# Altium footprint library PcbLib1.PcbLib: 98 footprints (part 5 of 7)
Each footprint in its own frame and in the unit in brackets; x right, y up, seen from the top. Pads: shape width x height; smd on the part's side, far side on the other; paste and mask are expansions set on the pad; w line width, h text height; cw(c..) or ccw(c..) is an arc to the next point about the centre after c.
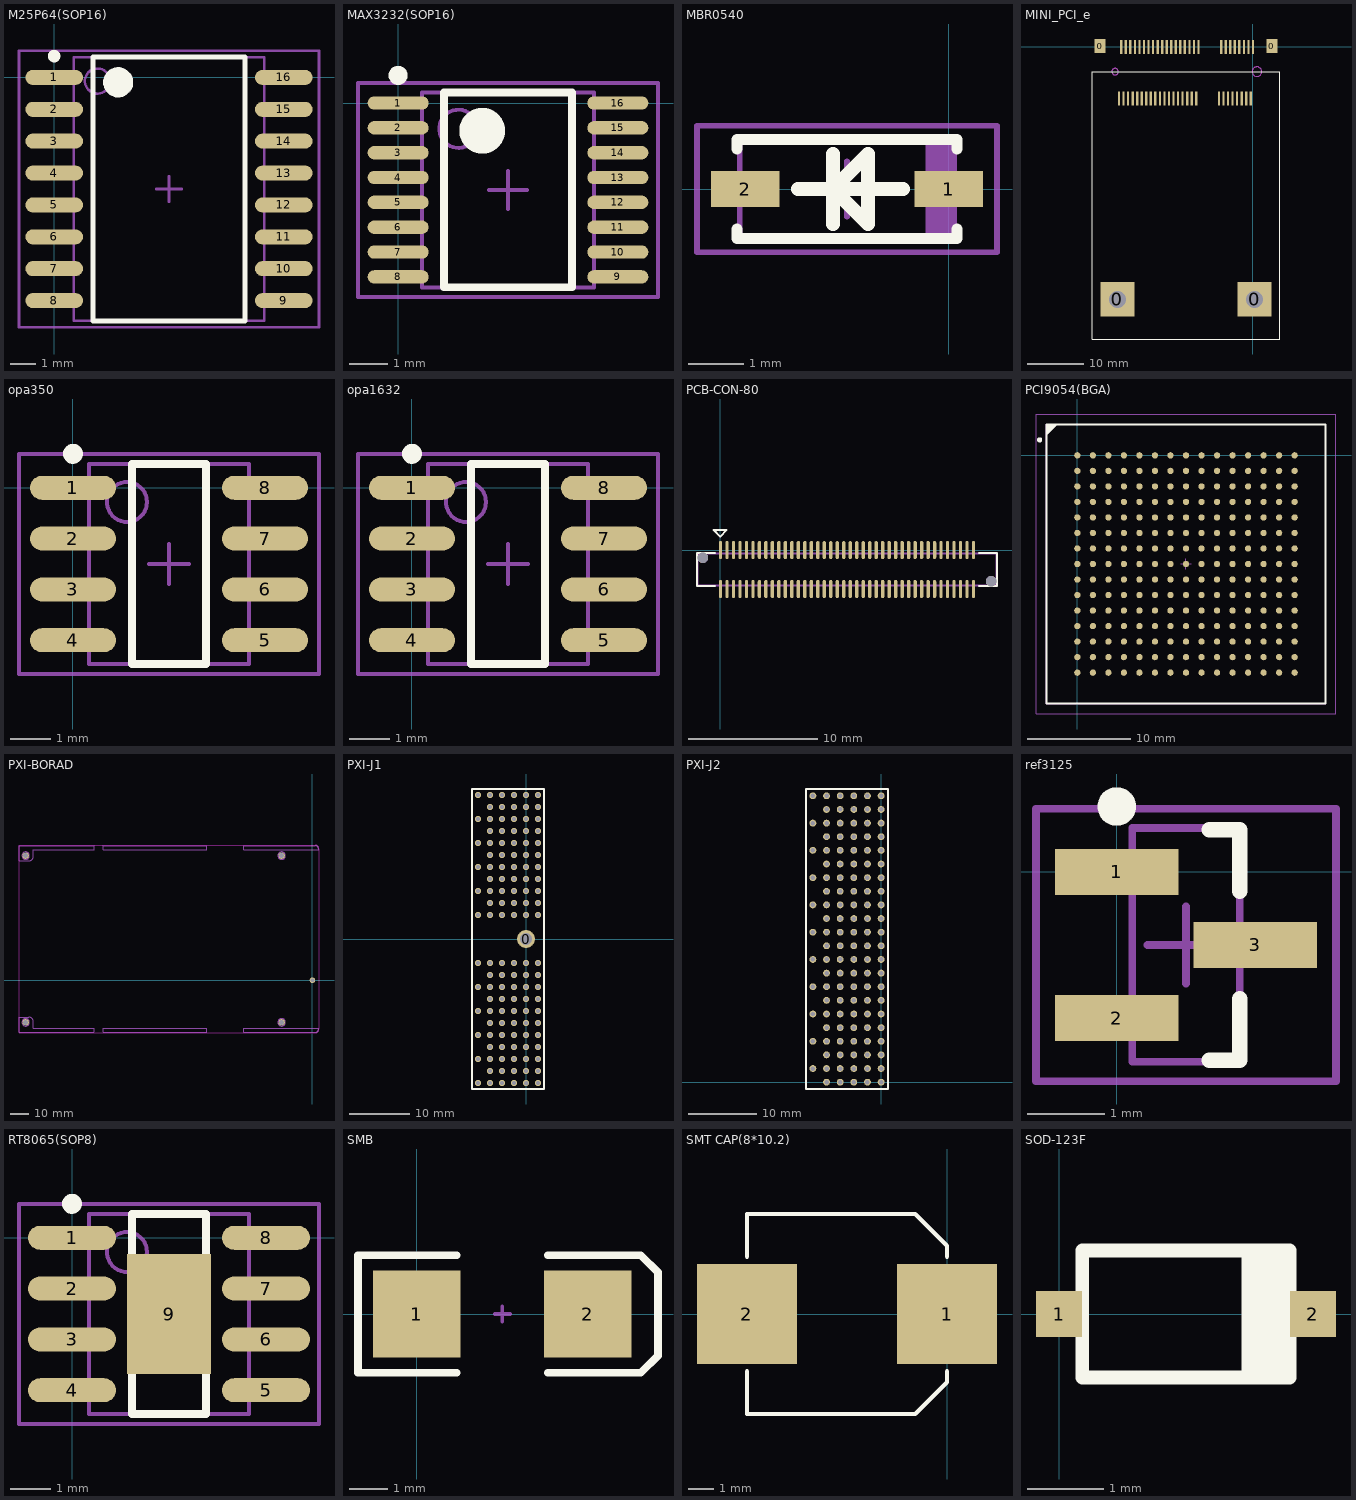
[diagram p4: the footprints below, top view; thin cyan lines are the x and y axes]

## M25P64(SOP16) [mm] "SOP, 16-Leads, Body 10.5x7.6mm (max), Pitch 1.27mm, IPC Medium Density"
height 2.65
pads (16):
  oval 2.3x0.6 smd: 1(0,0) 2(0,-1.27) 3(0,-2.54) 4(0,-3.81) 5(0,-5.08) 6(0,-6.35) 7(0,-7.62) 8(0,-8.89) 9(9.15,-8.89) 10(9.15,-7.62) 11(9.15,-6.35) 12(9.15,-5.08) 13(9.15,-3.81) 14(9.15,-2.54) 15(9.15,-1.27) 16(9.15,0)
Top Overlay:
  circle w0.25: c0,0.85 r0.125
  circle w0.6: c2.55,-0.195 r0.3
  lines w0.2: 1.55,-9.695 1.55,0.805 7.6,0.805 7.6,-9.695 1.55,-9.695
Mechanical 13:
  circle w0.1: c1.725,-0.145 r0.5
  lines w0.1: 0.775,-9.695 0.775,0.805 8.375,0.805 8.375,-9.695 0.775,-9.695
Mechanical 15:
  lines w0.1: 4.075,-4.445 5.075,-4.445 ; 4.575,-4.945 4.575,-3.945 ; -1.4,-9.945 -1.4,1.055 10.55,1.055 10.55,-9.945 -1.4,-9.945
3D body: height 2.65, standoff 0.1, extent 0.775,-9.695 8.375,0.805

## MAX3232(SOP16) [mm] "SOP, 16-Leads, Body 5.1x4.5mm (max), Pitch 0.65mm, IPC Medium Density"
height 2.65
pads (16):
  oval 1.6x0.35 smd: 1(0,0) 2(0,-0.65) 3(0,-1.3) 4(0,-1.95) 5(0,-2.6) 6(0,-3.25) 7(0,-3.9) 8(0,-4.55) 9(5.75,-4.55) 10(5.75,-3.9) 11(5.75,-3.25) 12(5.75,-2.6) 13(5.75,-1.95) 14(5.75,-1.3) 15(5.75,-0.65) 16(5.75,0)
Top Overlay:
  circle w0.6: c2.2,-0.725 r0.3
  circle w0.25: c0,0.725 r0.125
  lines w0.2: 1.2,-4.825 4.55,-4.825 4.55,0.275 1.2,0.275 1.2,-4.825
Mechanical 13:
  circle w0.1: c1.575,-0.675 r0.5
  lines w0.1: 0.625,-4.825 5.125,-4.825 5.125,0.275 0.625,0.275 0.625,-4.825
Mechanical 15:
  lines w0.1: 2.375,-2.275 3.375,-2.275 ; 2.875,-2.775 2.875,-1.775 ; -1.05,-5.075 6.8,-5.075 6.8,0.525 -1.05,0.525 -1.05,-5.075
3D body: height 2.65, standoff 0.1, extent 0.625,-4.825 5.125,0.275

## MBR0540 [mm]
pads (2):
  rect 1.25x0.65 smd: 1(0,0) 2(-3.7,0)
Top Overlay:
  lines w0.2: -3.85,-0.725 -3.85,-0.9 0.15,-0.9 0.15,-0.725 ; -3.85,0.725 -3.85,0.9 0.15,0.9 0.15,0.725
  lines w0.254: -2.739,0 -0.834,0 ; -2.104,-0.635 -2.104,0.635 ; -2.104,0 -1.469,-0.635 -1.469,0.635 -2.104,0
Mechanical 13:
  region: 0.1,0.9 -0.425,0.9 -0.425,-0.9 0.1,-0.9
  lines w0.1: -3.8,-0.9 0.1,-0.9 0.1,0.9 -3.8,0.9 -3.8,-0.9
Mechanical 15:
  lines w0.1: -2.35,0 -1.35,0 ; -1.85,-0.5 -1.85,0.5 ; -4.575,-1.15 0.875,-1.15 0.875,1.15 -4.575,1.15 -4.575,-1.15
3D body: height 1.35, standoff 0, extent -3.8,-0.9 0.1,0.9

## MINI_PCI_e [mm]
pads (56):
  rect 2x2.5 smd: 0(-26.95,0.15) 0(3.35,0.15)
  rect 6x6 hole 3: 0(-23.9,-44.45) 0(0.3,-44.45)
  rect 0.4x2.5 smd: 1(0,0) 2(-0.4,-9.1) 3(-0.8,0) 4(-1.2,-9.1) 5(-1.6,0) 6(-2,-9.1) 7(-2.4,0) 8(-2.8,-9.1) 9(-3.2,0) 10(-3.6,-9.1) 11(-4,0) 12(-4.4,-9.1) 13(-4.8,0) 14(-5.2,-9.1) 15(-5.6,0) 16(-6,-9.1) 17(-9.6,0) 18(-10,-9.1) 19(-10.4,0) 20(-10.8,-9.1) 21(-11.2,0) 22(-11.6,-9.1) 23(-12,0) 24(-12.4,-9.1) 25(-12.8,0) 26(-13.2,-9.1) 27(-13.6,0) 28(-14,-9.1) 29(-14.4,0) 30(-14.8,-9.1) 31(-15.2,0) 32(-15.6,-9.1) 33(-16,0) 34(-16.4,-9.1) 35(-16.8,0) 36(-17.2,-9.1) 37(-17.6,0) 38(-18,-9.1) 39(-18.4,0) 40(-18.8,-9.1) 41(-19.2,0) 42(-19.6,-9.1) 43(-20,0) 44(-20.4,-9.1) 45(-20.8,0) 46(-21.2,-9.1) 47(-21.6,0) 48(-22,-9.1) 49(-22.4,0) 50(-22.8,-9.1) 51(-23.2,0) 52(-23.6,-9.1)
Top Overlay:
  lines w0.178: 4.699,-51.45 -28.3,-51.45 -28.3,-22.86 -28.3,-4.35 4.7,-4.35 4.7,-22.86 4.7,-51.45
Keep-Out Layer:
  circle w0.152: c0.719,-4.353 r0.846
  circle w0.152: c-24.3,-4.353 r0.58
Mechanical 1:
  circle w0.152: c0.7,-4.35 r0.847
  circle w0.152: c-24.3,-4.35 r0.574

## opa350 [mm] "TSOP, 8-Leads, Body 3.1x3.1mm (max), Pitch 0.65mm, IPC Medium Density"
height 1.1
pads (8):
  oval 2.15x0.6 smd: 1(0,0) 2(0,-1.27) 3(0,-2.54) 4(0,-3.81) 5(4.8,-3.81) 6(4.8,-2.54) 7(4.8,-1.27) 8(4.8,0)
Top Overlay:
  circle w0.25: c0,0.85 r0.125
  lines w0.2: 1.475,-4.405 3.325,-4.405 3.325,0.595 1.475,0.595 1.475,-4.405
Mechanical 13:
  circle w0.1: c1.35,-0.355 r0.5
  lines w0.1: 0.4,-4.405 4.4,-4.405 4.4,0.595 0.4,0.595 0.4,-4.405
Mechanical 15:
  lines w0.1: 1.9,-1.905 2.9,-1.905 ; 2.4,-2.405 2.4,-1.405 ; -1.35,-4.655 6.15,-4.655 6.15,0.845 -1.35,0.845 -1.35,-4.655
3D body: height 1.75, standoff 0.1, extent 0.4,-4.405 4.4,0.595

## opa1632 [mm] "SOP, 8-Leads, Body 5.0x4.0mm (max), Pitch 1.27mm, IPC Medium Density"
height 1.75
pads (8):
  oval 2.15x0.6 smd: 1(0,0) 2(0,-1.27) 3(0,-2.54) 4(0,-3.81) 5(4.8,-3.81) 6(4.8,-2.54) 7(4.8,-1.27) 8(4.8,0)
Top Overlay:
  circle w0.25: c0,0.85 r0.125
  lines w0.2: 1.475,-4.405 3.325,-4.405 3.325,0.595 1.475,0.595 1.475,-4.405
Mechanical 13:
  circle w0.1: c1.35,-0.355 r0.5
  lines w0.1: 0.4,-4.405 4.4,-4.405 4.4,0.595 0.4,0.595 0.4,-4.405
Mechanical 15:
  lines w0.1: 1.9,-1.905 2.9,-1.905 ; 2.4,-2.405 2.4,-1.405 ; -1.35,-4.655 6.15,-4.655 6.15,0.845 -1.35,0.845 -1.35,-4.655
3D body: height 1.75, standoff 0.1, extent 0.4,-4.405 4.4,0.595

## PCB-CON-80 [mil]
pads (82):
  oval 10x55 smd: 1(0,0) 2(0,-118.12) 3(19.69,0) 4(19.69,-118.12) 5(39.37,0) 6(39.37,-118.12) 7(59.06,0) 8(59.06,-118.12) 9(78.74,0) 10(78.74,-118.12) 11(98.43,0) 12(98.43,-118.12) 13(118.11,0) 14(118.11,-118.12) 15(137.8,0) 16(137.8,-118.12) 17(157.48,0) 18(157.48,-118.12) 19(177.17,0) 20(177.17,-118.12) 21(196.85,0) 22(196.85,-118.12) 23(216.54,0) 24(216.54,-118.12) 25(236.22,0) 26(236.22,-118.12) 27(255.91,0) 28(255.91,-118.12) 29(275.59,0) 30(275.59,-118.12) 31(295.28,0) 32(295.28,-118.12) 33(314.96,0) 34(314.96,-118.12) 35(334.65,0) 36(334.65,-118.12) 37(354.33,0) 38(354.33,-118.12) 39(374.02,0) 40(374.02,-118.12) 41(393.7,0) 42(393.7,-118.12) 43(413.39,0) 44(413.39,-118.12) 45(433.07,0) 46(433.07,-118.12) 47(452.76,0) 48(452.76,-118.12) 49(472.44,0) 50(472.44,-118.12) 51(492.13,0) 52(492.13,-118.12) 53(511.81,0) 54(511.81,-118.12) 55(531.5,0) 56(531.5,-118.12) 57(551.18,0) 58(551.18,-118.12) 59(570.87,0) 60(570.87,-118.12) 61(590.55,0) 62(590.55,-118.12) 63(610.24,0) 64(610.24,-118.12) 65(629.92,0) 66(629.92,-118.12) 67(649.61,0) 68(649.61,-118.12) 69(669.29,0) 70(669.29,-118.12) 71(688.98,0) 72(688.98,-118.12) 73(708.66,0) 74(708.66,-118.12) 75(728.35,0) 76(728.35,-118.12) 77(748.03,0) 78(748.03,-118.12) 79(767.72,0) 80(767.72,-118.12)
  round 32 / inner round 60 / far side round 32 hole 32: " "(-53.15,-23.63) " "(820.87,-94.49)
Top Overlay:
  lines w6: -16.14,-109.06 -71.14,-109.06 -71.14,-9.06 -16.14,-9.06 ; 783.86,-109.06 838.86,-109.06 838.86,-9.06 783.86,-9.06 ; -21.14,60.94 -1.14,40.94 18.86,60.94 -21.14,60.94
Mechanical 11:
  lines w6: -68.9,-108.27 -68.9,-9.85 836.62,-9.85 836.62,-108.27 -68.9,-108.27

## PCI9054(BGA) [mm] "BGA, 225-Leads, Body 27.0x27.0mm,  Pitch 1.50mm"
height 2.13
pads (225):
  round 0.61 smd: A1(0,0) A2(1.5,0) A3(3,0) A4(4.5,0) A5(6,0) A6(7.5,0) A7(9,0) A8(10.5,0) A9(12,0) A10(13.5,0) A11(15,0) A12(16.5,0) A13(18,0) A14(19.5,0) A15(21,0) B1(0,-1.5) B2(1.5,-1.5) B3(3,-1.5) B4(4.5,-1.5) B5(6,-1.5) B6(7.5,-1.5) B7(9,-1.5) B8(10.5,-1.5) B9(12,-1.5) B10(13.5,-1.5) B11(15,-1.5) B12(16.5,-1.5) B13(18,-1.5) B14(19.5,-1.5) B15(21,-1.5) C1(0,-3) C2(1.5,-3) C3(3,-3) C4(4.5,-3) C5(6,-3) C6(7.5,-3) C7(9,-3) C8(10.5,-3) C9(12,-3) C10(13.5,-3) C11(15,-3) C12(16.5,-3) C13(18,-3) C14(19.5,-3) C15(21,-3) D1(0,-4.5) D2(1.5,-4.5) D3(3,-4.5) D4(4.5,-4.5) D5(6,-4.5) D6(7.5,-4.5) D7(9,-4.5) D8(10.5,-4.5) D9(12,-4.5) D10(13.5,-4.5) D11(15,-4.5) D12(16.5,-4.5) D13(18,-4.5) D14(19.5,-4.5) D15(21,-4.5) E1(0,-6) E2(1.5,-6) E3(3,-6) E4(4.5,-6) E5(6,-6) E6(7.5,-6) E7(9,-6) E8(10.5,-6) E9(12,-6) E10(13.5,-6) E11(15,-6) E12(16.5,-6) E13(18,-6) E14(19.5,-6) E15(21,-6) F1(0,-7.5) F2(1.5,-7.5) F3(3,-7.5) F4(4.5,-7.5) F5(6,-7.5) F6(7.5,-7.5) F7(9,-7.5) F8(10.5,-7.5) F9(12,-7.5) F10(13.5,-7.5) F11(15,-7.5) F12(16.5,-7.5) F13(18,-7.5) F14(19.5,-7.5) F15(21,-7.5) G1(0,-9) G2(1.5,-9) G3(3,-9) G4(4.5,-9) G5(6,-9) G6(7.5,-9) G7(9,-9) G8(10.5,-9) G9(12,-9) G10(13.5,-9) G11(15,-9) G12(16.5,-9) G13(18,-9) G14(19.5,-9) G15(21,-9) H1(0,-10.5) H2(1.5,-10.5) H3(3,-10.5) H4(4.5,-10.5) H5(6,-10.5) H6(7.5,-10.5) H7(9,-10.5) H8(10.5,-10.5) H9(12,-10.5) H10(13.5,-10.5) H11(15,-10.5) H12(16.5,-10.5) H13(18,-10.5) H14(19.5,-10.5) H15(21,-10.5) J1(0,-12) J2(1.5,-12) J3(3,-12) J4(4.5,-12) J5(6,-12) J6(7.5,-12) J7(9,-12) J8(10.5,-12) J9(12,-12) J10(13.5,-12) J11(15,-12) J12(16.5,-12) J13(18,-12) J14(19.5,-12) J15(21,-12) K1(0,-13.5) K2(1.5,-13.5) K3(3,-13.5) K4(4.5,-13.5) K5(6,-13.5) K6(7.5,-13.5) K7(9,-13.5) K8(10.5,-13.5) K9(12,-13.5) K10(13.5,-13.5) K11(15,-13.5) K12(16.5,-13.5) K13(18,-13.5) K14(19.5,-13.5) K15(21,-13.5) L1(0,-15) L2(1.5,-15) L3(3,-15) L4(4.5,-15) L5(6,-15) L6(7.5,-15) L7(9,-15) L8(10.5,-15) L9(12,-15) L10(13.5,-15) L11(15,-15) L12(16.5,-15) L13(18,-15) L14(19.5,-15) L15(21,-15) M1(0,-16.5) M2(1.5,-16.5) M3(3,-16.5) M4(4.5,-16.5) M5(6,-16.5) M6(7.5,-16.5) M7(9,-16.5) M8(10.5,-16.5) M9(12,-16.5) M10(13.5,-16.5) M11(15,-16.5) M12(16.5,-16.5) M13(18,-16.5) M14(19.5,-16.5) M15(21,-16.5) N1(0,-18) N2(1.5,-18) N3(3,-18) N4(4.5,-18) N5(6,-18) N6(7.5,-18) N7(9,-18) N8(10.5,-18) N9(12,-18) N10(13.5,-18) N11(15,-18) N12(16.5,-18) N13(18,-18) N14(19.5,-18) N15(21,-18) P1(0,-19.5) P2(1.5,-19.5) P3(3,-19.5) P4(4.5,-19.5) P5(6,-19.5) P6(7.5,-19.5) P7(9,-19.5) P8(10.5,-19.5) P9(12,-19.5) P10(13.5,-19.5) P11(15,-19.5) P12(16.5,-19.5) P13(18,-19.5) P14(19.5,-19.5) P15(21,-19.5) R1(0,-21) R2(1.5,-21) R3(3,-21) R4(4.5,-21) R5(6,-21) R6(7.5,-21) R7(9,-21) R8(10.5,-21) R9(12,-21) R10(13.5,-21) R11(15,-21) R12(16.5,-21) R13(18,-21) R14(19.5,-21) R15(21,-21)
Top Overlay:
  circle w0.25: c-3.65,1.5 r0.125
  region: -2,3 -3,2 -3,3
  lines w0.2: -3,2 -2,3 ; -3,-24 -3,3 24,3 24,-24 -3,-24
Mechanical 13:
  lines w0.1: -3,-24 -3,3 24,3 24,-24 -3,-24
Mechanical 15:
  lines w0.1: 10,-10.5 11,-10.5 ; 10.5,-11 10.5,-10 ; -4,-25 -4,4 25,4 25,-25 -4,-25
3D body: height 2.13, standoff 0.5, extent -3,-24 24,3

## PXI-BORAD [mm]
pads (5):
  round 3.5 hole 2.7: 0(-152.93,-22.45) 0(-152.93,66.45) 0(-16.43,-22.45) 0(-16.43,66.45)
  round 3 hole 2: 0(0,0)
Keep-Out Layer:
  lines w0.254: -156.5,-28 -156.5,72 ; -156.5,-28 -156.5,-28 ; -156.5,-28 1.5,-28 ccw(c1.5,-26) 3.5,-26 3.5,70 ccw(c1.5,70) 1.5,72 -156.5,72 ; -156.5,72 -156.5,72
Mechanical 15:
  circle w0.254: c-16.43,-22.45 r2
  circle w0.254: c-152.93,-22.45 r2
  circle w0.254: c-152.93,66.45 r2
  circle w0.254: c-16.43,66.45 r2
  lines w0.254: -156.25,-27.75 -156.25,-19.604 -151.42,-19.604 cw(c-151.43,-22.134) -148.9,-22.144 -148.9,-25.5 -116.5,-25.5 -116.5,-27.746 ; -156.25,71.75 -156.25,63.604 -151.42,63.604 ccw(c-151.43,66.134) -148.9,66.144 -148.9,69.5 -116.5,69.5 -116.5,71.746 ; -156.246,-27.75 -116.504,-27.75 ; -156.246,71.75 -116.504,71.75 ; -111.5,-27.75 -56.5,-27.75 -56.5,-25.5 -111.5,-25.5 -111.5,-27.75 ; -111.5,69.5 -56.5,69.5 -56.5,71.75 -111.5,71.75 -111.5,69.5 ; -36.5,-27.75 1.5,-27.75 ccw(c1.5,-26) 3.25,-26 3.25,-25.5 -36.5,-25.5 -36.5,-27.75 ; -36.5,69.5 -36.5,71.75 1.5,71.75 cw(c1.5,70) 3.25,70 3.25,69.5 -36.5,69.5

## PXI-J1 [mm]
pads (123):
  round 3 hole 2: 0(0,0)
  round 1 hole 0.65: A1(2,-24) A2(2,-22) A3(2,-20) A4(2,-18) A5(2,-16) A6(2,-14) A7(2,-12) A8(2,-10) A9(2,-8) A10(2,-6) A11(2,-4) A15(2,4) A16(2,6) A17(2,8) A18(2,10) A19(2,12) A20(2,14) A21(2,16) A22(2,18) A23(2,20) A24(2,22) A25(2,24) B2(0,-22) B3(0,-20) B4(0,-18) B5(0,-16) B6(0,-14) B7(0,-12) B8(0,-10) B9(0,-8) B10(0,-6) B11(0,-4) B15(0,4) B16(0,6) B17(0,8) B18(0,10) B19(0,12) B20(0,14) B21(0,16) B22(0,18) B23(0,20) B24(0,22) B25(0,24) C1(-2,-24) C2(-2,-22) C3(-2,-20) C4(-2,-18) C5(-2,-16) C6(-2,-14) C7(-2,-12) C8(-2,-10) C9(-2,-8) C10(-2,-6) C11(-2,-4) C15(-2,4) C16(-2,6) C17(-2,8) C18(-2,10) C19(-2,12) C20(-2,14) C21(-2,16) C22(-2,18) C23(-2,20) C24(-2,22) C25(-2,24) D1(-4,-24) D2(-4,-22) D3(-4,-20) D4(-4,-18) D5(-4,-16) D6(-4,-14) D7(-4,-12) D8(-4,-10) D9(-4,-8) D10(-4,-6) D11(-4,-4) D15(-4,4) D16(-4,6) D17(-4,8) D18(-4,10) D19(-4,12) D20(-4,14) D21(-4,16) D22(-4,18) D23(-4,20) D24(-4,22) D25(-4,24) E1(-6,-24) E2(-6,-22) E3(-6,-20) E4(-6,-18) E5(-6,-16) E6(-6,-14) E7(-6,-12) E8(-6,-10) E9(-6,-8) E10(-6,-6) E11(-6,-4) E15(-6,4) E16(-6,6) E17(-6,8) E18(-6,10) E19(-6,12) E20(-6,14) E21(-6,16) E22(-6,18) E23(-6,20) E24(-6,22) E25(-6,24) F1(-8,-24) F3(-8,-20) F5(-8,-16) F7(-8,-12) F9(-8,-8) F11(-8,-4) F15(-8,4) F17(-8,8) F19(-8,12) F21(-8,16) F23(-8,20) F25(-8,24)
  round 1 hole 0.75: B1(0,-24)
Top Overlay:
  lines w0.254: -9,-25 3,-25 3,25 -9,25 -9,-25

## PXI-J2 [mm]
pads (121):
  round 1 hole 0.65: A1(0,0) A2(0,2) A3(0,4) A4(0,6) A5(0,8) A6(0,10) A7(0,12) A8(0,14) A9(0,16) A10(0,18) A11(0,20) A12(0,22) A13(0,24) A14(0,26) A15(0,28) A16(0,30) A17(0,32) A18(0,34) A19(0,36) A20(0,38) A21(0,40) A22(0,42) B1(-2,0) B2(-2,2) B3(-2,4) B4(-2,6) B5(-2,8) B6(-2,10) B7(-2,12) B8(-2,14) B9(-2,16) B10(-2,18) B11(-2,20) B12(-2,22) B13(-2,24) B14(-2,26) B15(-2,28) B16(-2,30) B17(-2,32) B18(-2,34) B19(-2,36) B20(-2,38) B21(-2,40) B22(-2,42) C1(-4,0) C2(-4,2) C3(-4,4) C4(-4,6) C5(-4,8) C6(-4,10) C7(-4,12) C8(-4,14) C9(-4,16) C10(-4,18) C11(-4,20) C12(-4,22) C13(-4,24) C14(-4,26) C15(-4,28) C16(-4,30) C17(-4,32) C18(-4,34) C19(-4,36) C20(-4,38) C21(-4,40) C22(-4,42) D1(-6,0) D2(-6,2) D3(-6,4) D4(-6,6) D5(-6,8) D6(-6,10) D7(-6,12) D8(-6,14) D9(-6,16) D10(-6,18) D11(-6,20) D12(-6,22) D13(-6,24) D14(-6,26) D15(-6,28) D16(-6,30) D17(-6,32) D18(-6,34) D19(-6,36) D20(-6,38) D21(-6,40) D22(-6,42) E1(-8,0) E2(-8,2) E3(-8,4) E4(-8,6) E5(-8,8) E6(-8,10) E7(-8,12) E8(-8,14) E9(-8,16) E10(-8,18) E11(-8,20) E12(-8,22) E13(-8,24) E14(-8,26) E15(-8,28) E16(-8,30) E17(-8,32) E18(-8,34) E19(-8,36) E20(-8,38) E21(-8,40) E22(-8,42) F2(-10,2) F4(-10,6) F6(-10,10) F8(-10,14) F10(-10,18) F12(-10,22) F14(-10,26) F16(-10,30) F18(-10,34) F20(-10,38) F22(-10,42)
Top Overlay:
  lines w0.254: -11,-1 -11,43 1,43 1,-1 -11,-1

## ref3125 [mm] "SOT23, 3-Leads, Body 3.0x2.6mm (max), Pitch 0.95mm, IPC Medium Density"
height 1.12
pads (3):
  rect 1.6x0.6 smd: 1(0,0) 2(0,-1.9) 3(1.8,-0.95)
Top Overlay:
  circle w0.25: c0,0.85 r0.125
  lines w0.2: 1.2,-2.45 1.6,-2.45 1.6,-1.65 ; 1.2,0.55 1.6,0.55 1.6,-0.25
Mechanical 13:
  lines w0.1: 0.2,-2.47 1.6,-2.47 1.6,0.57 0.2,0.57 0.2,-2.47
Mechanical 15:
  lines w0.1: 0.4,-0.95 1.4,-0.95 ; 0.9,-1.45 0.9,-0.45 ; -1.05,-2.72 2.85,-2.72 2.85,0.82 -1.05,0.82 -1.05,-2.72
3D body: height 1.12, standoff 0.01, extent 0.2,-2.47 1.6,0.57

## RT8065(SOP8) [mm] "SOP, 8-Leads, Body 5.0x4.0mm (max), Pitch 1.27mm, IPC Medium Density"
height 2.65
pads (9):
  oval 2.2x0.6 smd: 1(0,0) 2(0,-1.27) 3(0,-2.54) 4(0,-3.81) 5(4.85,-3.81) 6(4.85,-2.54) 7(4.85,-1.27) 8(4.85,0)
  rect 2.1x3 smd: 9(2.425,-1.905)
Top Overlay:
  circle w0.25: c0,0.85 r0.125
  lines w0.2: 1.5,-4.405 3.35,-4.405 3.35,0.595 1.5,0.595 1.5,-4.405
Mechanical 13:
  circle w0.1: c1.375,-0.355 r0.5
  lines w0.1: 0.425,-4.405 4.425,-4.405 4.425,0.595 0.425,0.595 0.425,-4.405
Mechanical 15:
  lines w0.1: 1.925,-1.905 2.925,-1.905 ; 2.425,-2.405 2.425,-1.405 ; -1.325,-4.655 6.175,-4.655 6.175,0.845 -1.325,0.845 -1.325,-4.655
3D body: height 2.65, standoff 0.1, extent 0.425,-4.405 4.425,0.595

## SMB [mm]
pads (2):
  rect 2.3x2.3 smd: 1(0,0) 2(4.5,0)
Top Overlay:
  lines w0.2: 1.05,-1.55 -1.55,-1.55 -1.55,1.55 1.05,1.55 ; 3.45,-1.55 5.9,-1.55 6.35,-1.1 6.35,1.1 5.9,1.55 3.45,1.55
Mechanical 1:
  lines w0.1: 2.05,0 2.45,0 ; 2.25,-0.2 2.25,0.2

## SMT CAP(8*10.2) [mm]
pads (2):
  rect 4x4 smd: 1(0,0) 2(-8.001,0)
Top Overlay:
  lines w0.178: -8.001,-2.286 -8.001,-4 -1.27,-4 ; -8.001,2.286 -8.001,4 -1.27,4 -0.001,2.731 -0.001,2.286 ; -1.27,-3.999 -0.001,-2.73 -0.001,-2.286

## SOD-123F [mm]
pads (2):
  rect 0.6x0.6 smd: 1(0,0) 2(3.3,0)
Top Overlay:
  lines w0.178: 2.459,-0.825 2.459,0.825 ; 2.586,-0.825 2.586,0.825 ; 2.713,-0.825 2.713,0.825 ; 2.84,-0.824 2.84,0.826 ; 0.3,-0.825 0.3,0.825 3,0.825 3,-0.825 0.3,-0.825